# EAGLE library part XC9572XL-100 (library Custom)
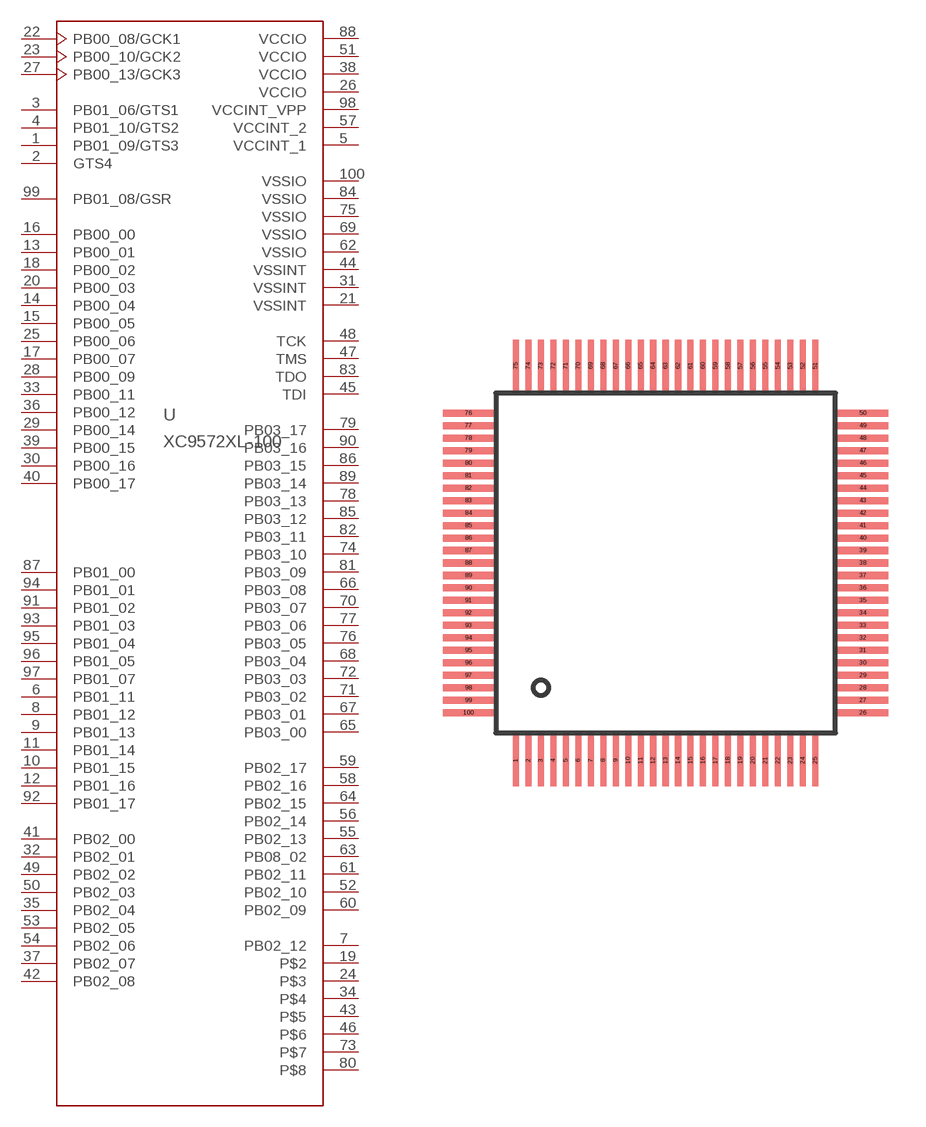
[diagram p11: symbol with the pads of TQ100; footprint TQ100]

Designator prefix -

## XC9572XL-100  [TQ100]
1  PB01_09/GTS3
2  GTS4
3  PB01_06/GTS1
4  PB01_10/GTS2
5  VCCINT_1  pwr
6  PB01_11
7  PB02_12
8  PB01_12
9  PB01_13
10  PB01_15
11  PB01_14
12  PB01_16
13  PB00_01
14  PB00_04
15  PB00_05
16  PB00_00
17  PB00_07
18  PB00_02
19  P$2
20  PB00_03
21  VSSINT  pwr
22  PB00_08/GCK1
23  PB00_10/GCK2
24  P$3
25  PB00_06
26  VCCIO  pwr
27  PB00_13/GCK3
28  PB00_09
29  PB00_14
30  PB00_16
31  VSSINT  pwr
32  PB02_01
33  PB00_11
34  P$4
35  PB02_04
36  PB00_12
37  PB02_07
38  VCCIO  pwr
39  PB00_15
40  PB00_17
41  PB02_00
42  PB02_08
43  P$5
44  VSSINT  pwr
45  TDI  in
46  P$6
47  TMS  in
48  TCK  in
49  PB02_02
50  PB02_03
51  VCCIO  pwr
52  PB02_10
53  PB02_05
54  PB02_06
55  PB02_13
56  PB02_14
57  VCCINT_2  pwr
58  PB02_16
59  PB02_17
60  PB02_09
61  PB02_11
62  VSSIO  pwr
63  PB08_02
64  PB02_15
65  PB03_00
66  PB03_08
67  PB03_01
68  PB03_04
69  VSSIO  pwr
70  PB03_07
71  PB03_02
72  PB03_03
73  P$7
74  PB03_10
75  VSSIO  pwr
76  PB03_05
77  PB03_06
78  PB03_13
79  PB03_17
80  P$8
81  PB03_09
82  PB03_11
83  TDO  out
84  VSSIO  pwr
85  PB03_12
86  PB03_15
87  PB01_00
88  VCCIO  pwr
89  PB03_14
90  PB03_16
91  PB01_02
92  PB01_17
93  PB01_03
94  PB01_01
95  PB01_04
96  PB01_05
97  PB01_07
98  VCCINT_VPP  pwr
99  PB01_08/GSR
100  VSSIO  pwr

## Footprint TQ100 (pad centres in mm)
TQ100 Auto generated by make-symbol-device-package-bsdl.ulp Rev. 29
smd 0.254 x 2.032: 1 -6,-7.9; 2 -5.5,-7.9; 3 -5,-7.9; 4 -4.5,-7.9; 5 -4,-7.9; 6 -3.5,-7.9; 7 -3,-7.9; 8 -2.5,-7.9; 9 -2,-7.9; 10 -1.5,-7.9; 11 -1,-7.9; 12 -0.5,-7.9; 13 0,-7.9; 14 0.5,-7.9; 15 1,-7.9; 16 1.5,-7.9; 17 2,-7.9; 18 2.5,-7.9; 19 3,-7.9; 20 3.5,-7.9; 21 4,-7.9; 22 4.5,-7.9; 23 5,-7.9; 24 5.5,-7.9; 25 6,-7.9; 51 6,7.9; 52 5.5,7.9; 53 5,7.9; 54 4.5,7.9; 55 4,7.9; 56 3.5,7.9; 57 3,7.9; 58 2.5,7.9; 59 2,7.9; 60 1.5,7.9; 61 1,7.9; 62 0.5,7.9; 63 0,7.9; 64 -0.5,7.9; 65 -1,7.9; 66 -1.5,7.9; 67 -2,7.9; 68 -2.5,7.9; 69 -3,7.9; 70 -3.5,7.9; 71 -4,7.9; 72 -4.5,7.9; 73 -5,7.9; 74 -5.5,7.9; 75 -6,7.9
smd 2.032 x 0.254: 26 7.9,-6; 27 7.9,-5.5; 28 7.9,-5; 29 7.9,-4.5; 30 7.9,-4; 31 7.9,-3.5; 32 7.9,-3; 33 7.9,-2.5; 34 7.9,-2; 35 7.9,-1.5; 36 7.9,-1; 37 7.9,-0.5; 38 7.9,0; 39 7.9,0.5; 40 7.9,1; 41 7.9,1.5; 42 7.9,2; 43 7.9,2.5; 44 7.9,3; 45 7.9,3.5; 46 7.9,4; 47 7.9,4.5; 48 7.9,5; 49 7.9,5.5; 50 7.9,6; 76 -7.9,6; 77 -7.9,5.5; 78 -7.9,5; 79 -7.9,4.5; 80 -7.9,4; 81 -7.9,3.5; 82 -7.9,3; 83 -7.9,2.5; 84 -7.9,2; 85 -7.9,1.5; 86 -7.9,1; 87 -7.9,0.5; 88 -7.9,0; 89 -7.9,-0.5; 90 -7.9,-1; 91 -7.9,-1.5; 92 -7.9,-2; 93 -7.9,-2.5; 94 -7.9,-3; 95 -7.9,-3.5; 96 -7.9,-4; 97 -7.9,-4.5; 98 -7.9,-5; 99 -7.9,-5.5; 100 -7.9,-6